# Altium footprint library PCB - POWER INDUCTORS - BOURNS SRN8040.PcbLib: 1 footprints
Each footprint in its own frame and in the unit in brackets; x right, y up, seen from the top. Pads: shape width x height; smd on the part's side, far side on the other; paste and mask are expansions set on the pad; w line width, h text height; cw(c..) or ccw(c..) is an arc to the next point about the centre after c.
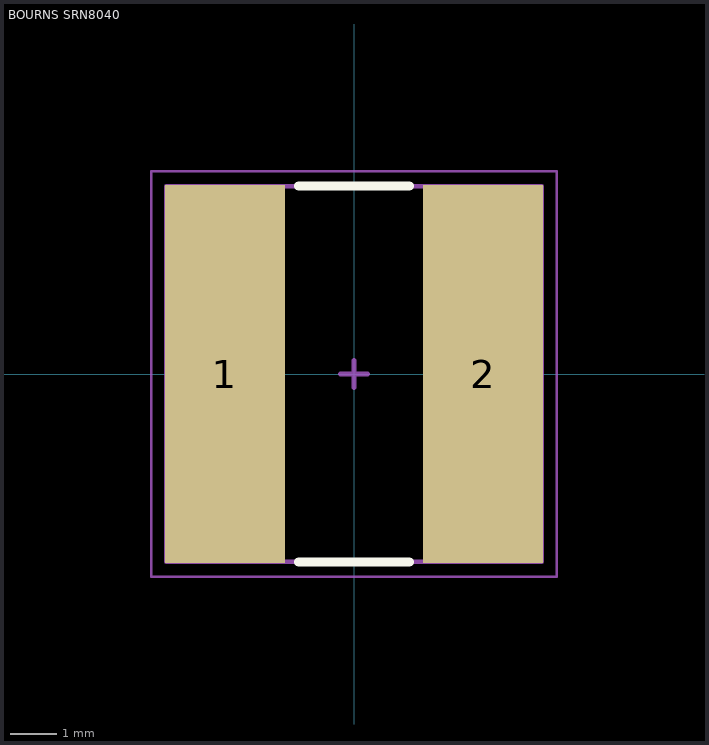
[diagram p0: the footprint, top view; thin cyan lines are the x and y axes]

## BOURNS SRN8040 [mm] "Power Inductor, 2-Leads, Bourns, SRN8040-220M"
height 4
pads (2):
  rect 2.6x8.2 smd: 1(-2.8,0) 2(2.8,0)
Top Overlay:
  lines w0.2: -1.2,-4.075 1.2,-4.075 ; -1.2,4.075 1.2,4.075
Mechanical 13:
  lines w0.1: -4.075,-4.075 -4.075,4.075 4.075,4.075 4.075,-4.075 -4.075,-4.075
Mechanical 15 (Mech15):
  lines w0.05: -4.4,-4.4 4.4,-4.4 4.4,4.4 -4.4,4.4 -4.4,-4.4
  lines w0.1: -0.3,0 0.3,0 ; 0,-0.3 0,0.3
3D body "Bourns - SRN8040.step": height 4, standoff 0, extent -4.075,-4.075 4.075,4.075